# EAGLE library part 1X9 (library weidmüller)
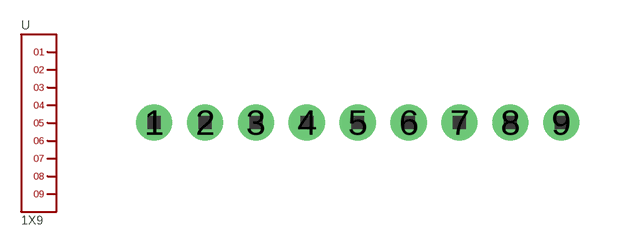
[diagram p11: symbol with the pads of 1X9; footprint 1X9]

Designator prefix -

## 1X9  [1X9]
1  1
2  2
3  3
4  4
5  5
6  6
7  7
8  8
9  9

## Footprint 1X9 (pad centres in mm)
drill 0.8 pad 1.422: 1 -8,0; 2 -6,0; 3 -4,0; 4 -2,0; 5 0,0; 6 2,0; 7 4,0; 8 6,0; 9 8,0